# EAGLE library part HEADER_2X8 (library rgb_cube)
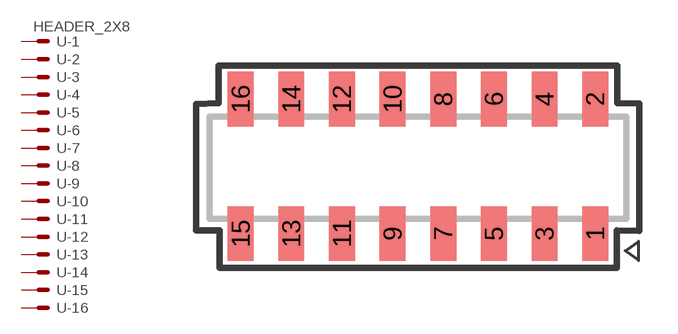
[diagram p34: symbol with the pads of HEADER_2MM_2X8; footprint HEADER_2MM_2X8]

Designator prefix -; gates -1=KV -2=K -3=K -4=K -5=K -6=K -7=K -8=K -9=K -10=K -11=K -12=K -13=K -14=K -15=K -16=K

## HEADER_2X8  [HEADER_2MM_2X8]
1  -1:S  pas
2  -2:S  pas
3  -3:S  pas
4  -4:S  pas
5  -5:S  pas
6  -6:S  pas
7  -7:S  pas
8  -8:S  pas
9  -9:S  pas
10  -10:S  pas
11  -11:S  pas
12  -12:S  pas
13  -13:S  pas
14  -14:S  pas
15  -15:S  pas
16  -16:S  pas

## Footprint HEADER_2MM_2X8 (pad centres in mm)
smd 1.02 x 2.16: 1 7,-2.925; 2 7,2.385; 3 5,-2.925; 4 5,2.385; 5 3,-2.925; 6 3,2.385; 7 1,-2.925; 8 1,2.385; 9 -1,-2.925; 10 -1,2.385; 11 -3,-2.925; 12 -3,2.385; 13 -5,-2.925; 14 -5,2.385; 15 -7,-2.925; 16 -7,2.385